# Altium footprint library Arduino_pcb.PcbLib: 28 footprints (part 1 of 2)
Each footprint in its own frame and in the unit in brackets; x right, y up, seen from the top. Pads: shape width x height; smd on the part's side, far side on the other; paste and mask are expansions set on the pad; w line width, h text height; cw(c..) or ccw(c..) is an arc to the next point about the centre after c.
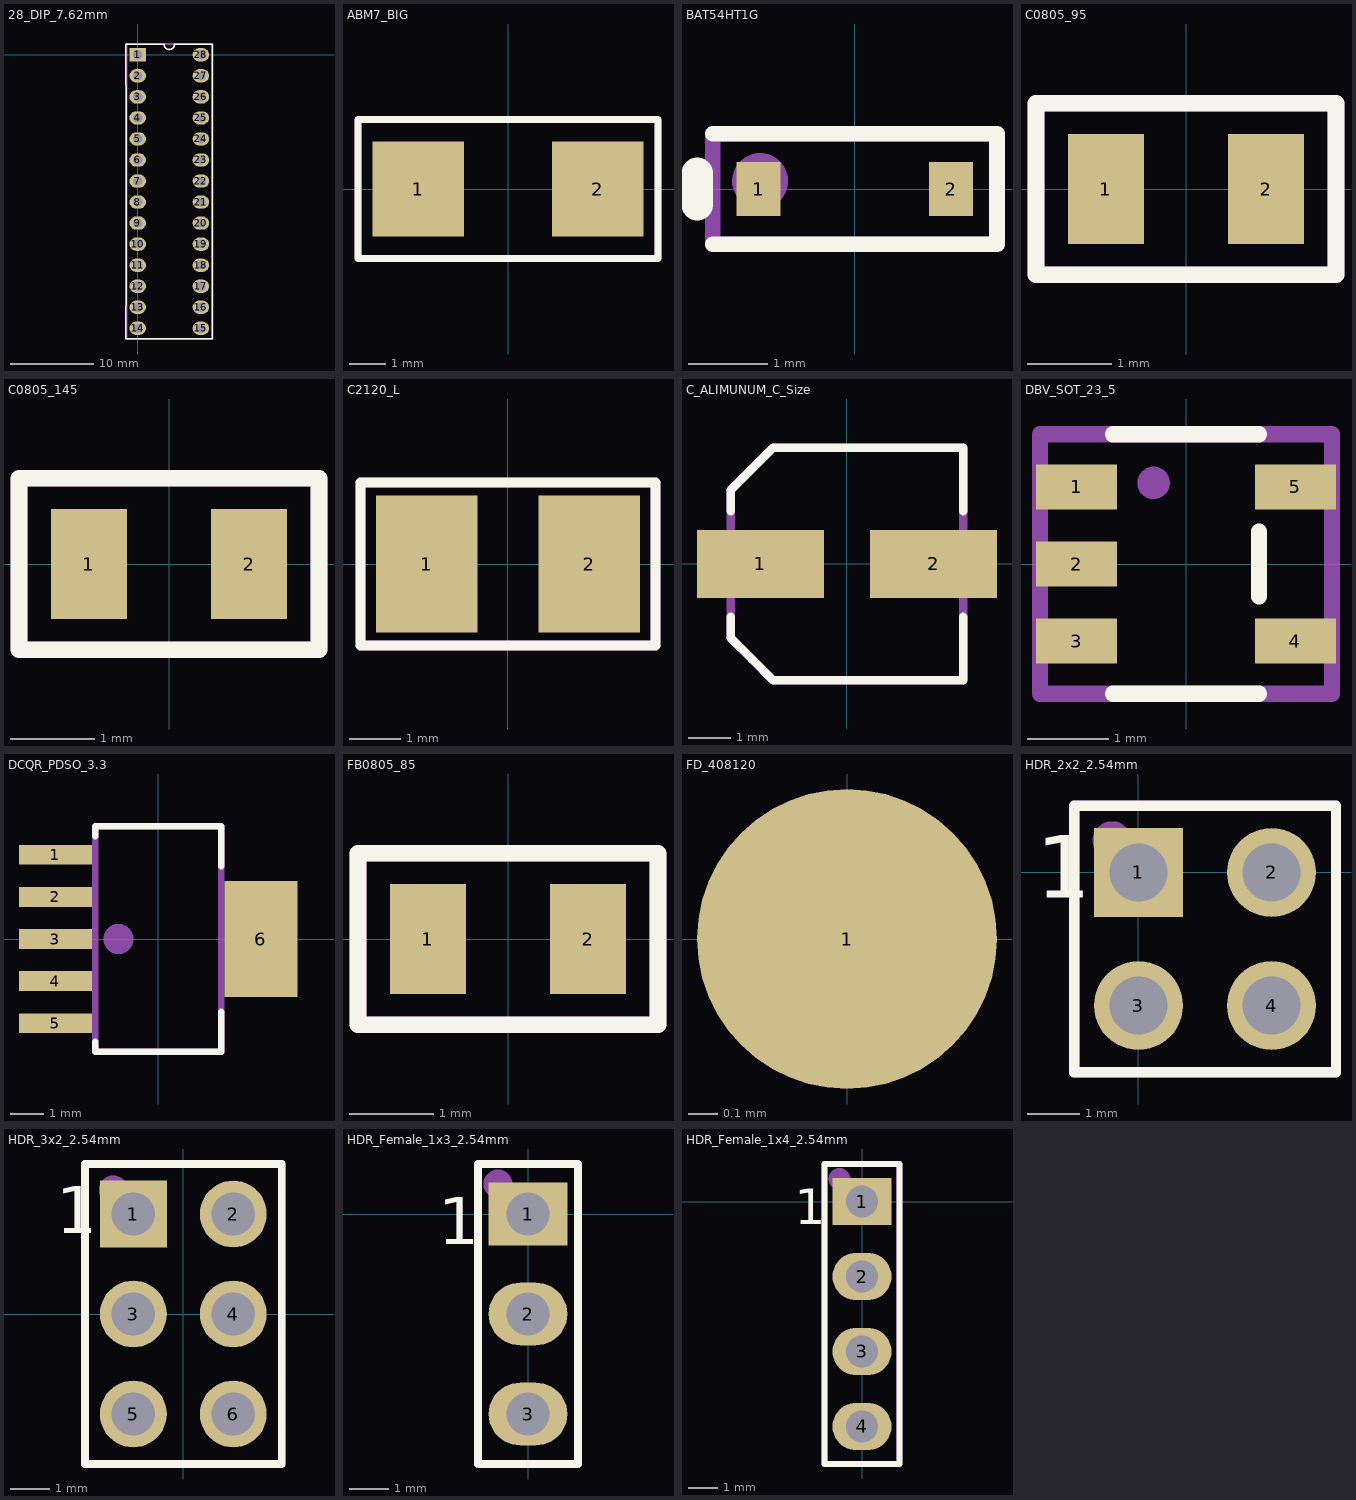
[diagram p0: the footprints below, top view; thin cyan lines are the x and y axes]

## 28_DIP_7.62mm [mm]
pads (28):
  rect 2x1.6 hole 1.1: 1(0,0)
  oval 2x1.6 hole 1.1: 2(0,-2.54) 3(0,-5.08) 4(0,-7.62) 5(0,-10.16) 6(0,-12.7) 7(0,-15.24) 8(0,-17.78) 9(0,-20.32) 10(0,-22.86) 11(0,-25.4) 12(0,-27.94) 13(0,-30.48) 14(0,-33.02) 15(7.62,-33.02) 16(7.62,-30.48) 17(7.62,-27.94) 18(7.62,-25.4) 19(7.62,-22.86) 20(7.62,-20.32) 21(7.62,-17.78) 22(7.62,-15.24) 23(7.62,-12.7) 24(7.62,-10.16) 25(7.62,-7.62) 26(7.62,-5.08) 27(7.62,-2.54) 28(7.62,0)
Top Overlay:
  lines w0.2: -1.465,-34.29 -1.39,-26.4 -1.39,-21.955 -1.39,-19.733 -1.39,-15.288 -1.39,-13.065 -1.39,-8.62 -1.409,-6.148 -1.446,-1.202 -1.465,1.27 3.175,1.27 ccw(c3.81,1.27) 4.445,1.27 9.01,1.27 9.01,-34.29 6.391,-34.29 5.082,-34.29 2.463,-34.29 1.154,-34.29 -1.465,-34.29
Mechanical 29 (Mech29):
  circle w0.5: c0,0 r0.2
  lines w0.25: -1.39,-34.31 9.01,-34.31 9.01,1.29 -1.39,1.29 -1.39,-34.31
  text ".Designator" at 4.91,-23.01 h3
3D body "User Library-28 pin dip-1.step": height 7.55, standoff 1.33, extent -0.127,-34.46 7.747,1.481

## ABM7_BIG [mm]
pads (2):
  rect 2.5x2.6 smd: 1(-2.45,0) 2(2.45,0)
Top Overlay:
  lines w0.2: -4.1,-1.9 4.1,-1.9 4.1,1.9 -4.1,1.9 -4.1,-1.9
Mechanical 29 (Mech29):
  lines w0.2: -4.1,-1.9 -4.1,1.9 4.1,1.9 4.1,-1.9 -4.1,-1.9
  text ".Designator" at -2.6,-0.6 h1.2
3D body "ABM7.STEP": height 1.41, standoff 0.01, extent -2.997,-1.753 2.997,1.753

## BAT54HT1G [mil]
pads (2):
  rect 22x27 smd: 1(-48,0) 2(48,0)
Top Overlay:
  lines w7.87: -70.87,-27.56 70.87,-27.56 70.87,27.56 -70.87,27.56
  lines w15.75: -78.74,-7.87 -78.74,7.87
Mechanical 29 (Mech29):
  circle w20: c-47.24,3.94 r3.94
  lines w7.87: -70.87,-27.56 70.87,-27.56 70.87,27.56 -70.87,27.56 -70.87,-27.56
  text ".Designator" at -19.68,-11.81 h23.62
3D body "User Library-SOD323.step": height 39.48, standoff 0.5, extent -49.21,-24.6 49.22,24.61

## C0805_95 [mm]
pads (2):
  rect 0.9x1.3 smd: 1(-0.95,0) 2(0.95,0)
Top Overlay:
  lines w0.2: -1.778,-1.016 1.778,-1.016 1.778,0.117 1.778,1.016 -0.141,1.016 -1.778,1.016 -1.778,-0.762 -1.778,-1.016
Mechanical 29 (Mech29):
  lines w0.2: -1.778,-1.016 1.778,-1.016 1.778,1.016 -1.778,1.016 -1.778,-1.016
  text ".Designator" at -1.27,-0.6 h0.6
3D body "CAPC2012X95N EIA 0805.step": height 0.96, standoff 0.01, extent -1,-0.6 1,0.6

## C0805_145 [mm]
pads (2):
  rect 0.9x1.3 smd: 1(-0.95,0) 2(0.95,0)
Top Overlay:
  lines w0.2: -1.778,-1.016 -1.778,-0.762 -1.778,1.016 -0.141,1.016 1.778,1.016 1.778,0.117 1.778,-1.016 -1.778,-1.016
Mechanical 29 (Mech29):
  lines w0.2: -1.778,-1.016 -1.778,1.016 1.778,1.016 1.778,-1.016 -1.778,-1.016
  text ".Designator" at -1.27,-0.6 h0.6
3D body "CAPC2012X145N EIA 0805.step": height 1.46, standoff 0.01, extent -1,-0.6 1,0.6

## C2120_L [mm]
pads (2):
  rect 2x2.7 smd: 1(-1.6,0) 2(1.6,0)
Top Overlay:
  lines w0.2: -2.9,-1.6 -2.9,1.6 2.9,1.6 2.9,-1.6 -2.9,-1.6
Mechanical 29 (Mech29):
  lines w0.2: -2.9,-1.6 -2.9,1.6 2.9,1.6 2.9,-1.6 -2.9,-1.6
  text ".Designator" at -1.7,-0.5 h1.2
3D body: height 2.7, standoff -0.01, extent -1.6,-1.25 -1.3,1.25
3D body: height 2.7, standoff -0.01, extent 1.4,-1.25 1.7,1.25
3D body: height 2.7, standoff -0.01, extent -1.3,-1.25 1.4,1.25

## C_ALIMUNUM_C_Size [mm]
pads (2):
  rect 3x1.6 smd: 1(-2.05,0) 2(2.05,0)
Top Overlay:
  lines w0.2: -2.75,-1.25 -2.75,-1.75 -2.25,-2.25 -1.75,-2.75 2.75,-2.75 2.75,-1.25 ; -2.75,1.25 -2.75,1.75 -1.75,2.75 2.75,2.75 2.75,1.25
Mechanical 29 (Mech29):
  lines w0.2: -2.75,-1.75 -2.75,1.25 -2.75,1.75 -1.75,2.75 2.75,2.75 2.75,-2.75 -1.75,-2.75 -2.75,-1.75
  text ".Designator" at -2,-0.75 h1.2
3D body "User Library-capacitor size C.step": height 5.42, standoff 0.01, extent -2.95,-2.65 2.95,2.65

## DBV_SOT_23_5 [mm]
pads (5):
  rect 1x0.55 smd: 1(-1.35,0.95) 2(-1.35,0) 3(-1.35,-0.95) 4(1.35,-0.95) 5(1.35,0.95)
Top Overlay:
  lines w0.2: -0.9,-1.6 0.9,-1.6 ; -0.9,1.6 0.9,1.6 ; 0.9,-0.4 0.9,0.4
Mechanical 29 (Mech29):
  circle w0.2: c-0.4,1 r0.1
  lines w0.2: -1.8,-1.6 1.8,-1.6 1.8,1.6 -1.8,1.6 -1.8,-1.6
  text ".Designator" at -0.5,-0.2 h0.6
3D body "User Library-TPS79333DBVR.step": height 1.61, standoff -0.01, extent -1.513,-1.525 1.514,1.525

## DCQR_PDSO_3.3 [mm]
pads (6):
  rect 2.2x0.6 smd: 1(-3.1,2.54) 2(-3.1,1.27) 3(-3.1,0) 4(-3.1,-1.27) 5(-3.1,-2.54)
  rect 2.2x3.5 smd: 6(3.1,0)
Top Overlay:
  lines w0.2: -1.9,-3.1 -1.9,-3.4 1.9,-3.4 1.9,-2.2 ; -1.9,3.1 -1.9,3.4 1.9,3.4 1.9,2.2
Mechanical 29 (Mech29):
  circle w0.508: c-1.2,0 r0.2
  lines w0.2: -1.9,-3.4 -1.9,3.4 1.9,3.4 1.9,-3.4 -1.9,-3.4
  text ".Designator" at 0.7,-2 h1.2
3D body "User Library-TPS73701DCQ.step": height 1.79, standoff -0.01, extent -3.63,-3.275 3.63,3.275

## DIP_28_Socket [mm]
3D body "dil_socket.stp": height 4.2, standoff -3.17, extent -1.24,-34.26 8.86,1.24

## FB0805_85 [mm]
pads (2):
  rect 0.9x1.3 smd: 1(-0.95,0) 2(0.95,0)
Top Overlay:
  lines w0.2: -1.778,-1.016 1.778,-1.016 1.778,0.117 1.778,1.016 -0.141,1.016 -1.778,1.016 -1.778,-0.762 -1.778,-1.016
Mechanical 29 (Mech29):
  lines w0.2: -1.778,-1.016 1.778,-1.016 1.778,1.016 -1.778,1.016 -1.778,-1.016
  text ".Designator" at -1.27,-0.6 h0.6
3D body "CAPC2012X88N EIA 0805.step": height 0.89, standoff 0.01, extent -1,-0.6 1,0.6

## FD_408120 [mil]
pads (1):
  round 40 smd paste-40 mask+40: 1(0,0)

## HDR_2x2_2.54mm [mm]
pads (4):
  rect 1.7x1.7 hole 1.1: 1(0,0)
  round 1.7 hole 1.1: 2(2.54,0) 3(0,-2.54) 4(2.54,-2.54)
Top Overlay:
  lines w0.2: -1.23,-3.81 -1.23,1.27 3.77,1.27 3.77,-3.81 -1.23,-3.81
  text "1" at -1.956,-0.483 h1.2
Mechanical 29 (Mech29):
  circle w0.508: c-0.508,0.61 r0.114
  lines w0.2: -1.23,-3.81 3.77,-3.81 3.77,1.27 -1.23,1.27 -1.23,-3.81
  text ".Designator" at 2.032,-1.778 h1.2
3D body "961204-6404-XX.stp": height 8.01, standoff -3.29, extent -1.23,-3.81 3.77,1.27

## HDR_3x2_2.54mm [mm]
pads (6):
  rect 1.7x1.7 hole 1.1: 1(-1.27,2.54)
  round 1.7 hole 1.1: 2(1.27,2.54) 3(-1.27,0) 4(1.27,0) 5(-1.27,-2.54) 6(1.27,-2.54)
Top Overlay:
  lines w0.2: -2.5,-3.81 -2.5,3.81 2.5,3.81 2.5,-3.81 -2.5,-3.81
  text "1" at -3.226,2.057 h1.2
Mechanical 29 (Mech29):
  circle w0.508: c-1.778,3.15 r0.114
  lines w0.2: -2.5,-3.81 2.5,-3.81 2.5,3.81 -2.5,3.81 -2.5,-3.81
  text ".Designator" at 0.305,-3.251 h1.2
3D body "961206-6404-XX.stp": height 8.01, standoff -3.29, extent -2.5,-3.81 2.5,3.81

## HDR_Female_1x3_2.54mm [mm]
pads (3):
  rect 2x1.6 / inner rect 2.5x1.6 / far side rect 2x1.6 hole 1.1: 1(0,0)
  oval 2x1.6 / inner oval 2.5x1.6 / far side oval 2x1.6 hole 1.1: 2(0,-2.54) 3(0,-5.08)
Top Overlay:
  lines w0.2: -1.27,-6.35 1.05,-6.35 1.27,-6.35 1.27,1.27 -1.27,1.27 -1.27,-6.35
  text "1" at -2.286,-0.762 h1.2
Mechanical 29 (Mech29):
  circle w0.381: c-0.762,0.762 r0.178
  lines w0.2: -1.27,-6.35 -1.27,1.27 1.27,1.27 1.27,-6.35 0.635,-6.35 -0.635,-6.35 -1.27,-6.35
  text ".Designator" at 0.5,-4.7 h1.2
3D body "HDR_1x3_White.stp": height 8.39, standoff -3.11, extent -1.205,-6.15 1.205,1.07

## HDR_Female_1x4_2.54mm [mm]
pads (4):
  rect 2x1.6 / inner rect 2.5x1.6 / far side rect 2x1.6 hole 1.1: 1(0,0)
  oval 2x1.6 / inner oval 2.5x1.6 / far side oval 2x1.6 hole 1.1: 2(0,-2.54) 3(0,-5.08) 4(0,-7.62)
Top Overlay:
  lines w0.2: -1.27,-8.89 -1.27,1.27 1.27,1.27 1.27,-8.89 -1.27,-8.89
  text "1" at -2.286,-0.762 h1.2
Mechanical 29 (Mech29):
  circle w0.381: c-0.762,0.762 r0.178
  lines w0.2: -1.27,-8.89 1.27,-8.89 1.27,1.27 -1.27,1.27 -1.27,-8.89
  text ".Designator" at 0.254,-6.604 h1.2
3D body "HDR_1x4_White.stp": height 8.39, standoff -3.11, extent -1.21,-8.68 1.2,1.08